# Altium schematic symbol library 1825159-1.SchLib: 1 symbol
Pins are listed as number, name and electrical type; pins without a type are passive.

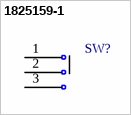
[diagram p0: symbol 1825159-1]

## 1825159-1
designator SW?  (value not drawn)
STS121PC04=SPDT SLIDE SWITCH; Configuration_Pole-Throw: Single Pole - Double Throw; Contact_Current_Rating: .25 A; MF: TE Connectivity; Price: None; MP: 1825159-1; Package: None; Availability: Unavailable; TE_purchase_URL: https://www.te.com/usa-en/product-1825159-1.html?te_bu=Cor&te_type=disp&te_campaign=seda_glo_cor-seda-global-disp-prtnr-fy19-seda-model-bom-cta_sma-317_1&elqCampaignId=32493; EU_RoHS_Compliance: Compliant; Switch_Type: Slide; SnapEDA_Link: https://www.snapeda.com/parts/1825159-1/TE%20Connectivity%20ALCOSWITCH%20Switches/view-part/?ref=snap; Value: *
footprint *SW_1825159-1
pins: 1, 2, 3